# Altium integrated library RC0201JR-0710KL.IntLib: 1 symbol
Pins are listed as number, name and electrical type; pins without a type are passive.

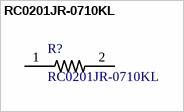
[diagram p0: symbol RC0201JR-0710KL]

## RC0201JR-0710KL
designator R?
/ RC Series 0201 0.05 W 10 kOhms 5% Â±200 ppm/Â°C SMT Thick Film Chip Resistor /; MF: Yageo; Price: None; SnapEDA_Link: https://www.snapeda.com/parts/RC0201JR-0710KL/Yageo/view-part/?ref=snap; Availability: Unavailable; MP: RC0201JR-0710KL; Package: 0201 Yageo; Value: *
footprint *RESC0603X26N
pins: 1, 2